# EAGLE library part TXS0108EPWR (library veter)
TXS0108EPWR 8-Bit Bidirectional Voltage-Level Translator for OD and Push-Pull Applications from: http://www.ti.com/product/txs0108e
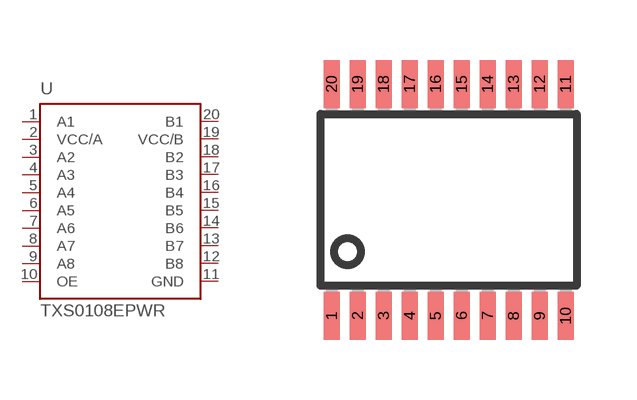
[diagram p0: symbol with the pads of PW-TSSOP-G20; footprint PW-TSSOP-G20]

Designator prefix -

## TXS0108EPWR  [PW-TSSOP-G20]
1  A1  in
2  VCC/A  pwr
3  A2  in
4  A3  in
5  A4  in
6  A5  in
7  A6  in
8  A7  in
9  A8  in
10  OE  in
11  GND  pwr
12  B8  out
13  B7  out
14  B6  out
15  B5  out
16  B4  out
17  B3  out
18  B2  out
19  VCC/B  pwr
20  B1  out

## Footprint PW-TSSOP-G20 (pad centres in mm)
TSSOP (PW) | 20 from: http://www.ti.com/lit/ml/mpds362/mpds362.pdf
smd 0.4 x 1.2: 1 -2.925,-2.9; 2 -2.275,-2.9; 3 -1.625,-2.9; 4 -0.975,-2.9; 5 -0.325,-2.9; 6 0.325,-2.9; 7 0.975,-2.9; 8 1.625,-2.9; 9 2.275,-2.9; 10 2.925,-2.9; 11 2.925,2.9; 12 2.275,2.9; 13 1.625,2.9; 14 0.975,2.9; 15 0.325,2.9; 16 -0.325,2.9; 17 -0.975,2.9; 18 -1.625,2.9; 19 -2.275,2.9; 20 -2.925,2.9